# EAGLE library part HT46R62 (library HT46R62)
Holtek HT46R62 A/D with LCD Type 8 Bit MCU
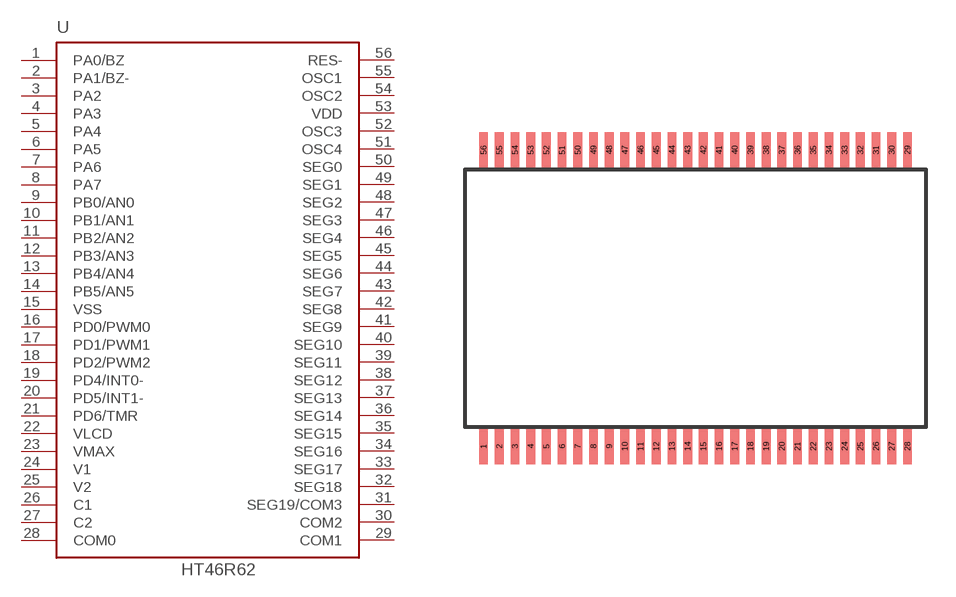
[diagram p0: symbol with the pads of SSOP56; footprint SSOP56]

Designator prefix -

## HT46R62  [SSOP56]
1  PA0/BZ
2  PA1/BZ-
3  PA2
4  PA3
5  PA4
6  PA5
7  PA6
8  PA7
9  PB0/AN0
10  PB1/AN1
11  PB2/AN2
12  PB3/AN3
13  PB4/AN4
14  PB5/AN5
15  VSS  pwr
16  PD0/PWM0
17  PD1/PWM1
18  PD2/PWM2
19  PD4/INT0-
20  PD5/INT1-
21  PD6/TMR
22  VLCD  pwr
23  VMAX  pwr
24  V1  pas
25  V2  pas
26  C1  pas
27  C2  pas
28  COM0
29  COM1
30  COM2
31  SEG19/COM3
32  SEG18
33  SEG17
34  SEG16
35  SEG15
36  SEG14
37  SEG13
38  SEG12
39  SEG11
40  SEG10
41  SEG9
42  SEG8
43  SEG7
44  SEG6
45  SEG5
46  SEG4
47  SEG3
48  SEG2
49  SEG1
50  SEG0
51  OSC4
52  OSC3
53  VDD  pwr
54  OSC2  pas
55  OSC1  pas
56  RES-  in

## Footprint SSOP56 (pad centres in mm)
SSOP 56 Shrink Small Outline Package
smd 0.45 x 1.8: 1 -10.8,-7.55; 2 -10,-7.55; 3 -9.2,-7.55; 4 -8.4,-7.55; 5 -7.6,-7.55; 6 -6.8,-7.55; 7 -6,-7.55; 8 -5.2,-7.55; 9 -4.4,-7.55; 10 -3.6,-7.55; 11 -2.8,-7.55; 12 -2,-7.55; 13 -1.2,-7.55; 14 -0.4,-7.55; 15 0.4,-7.55; 16 1.2,-7.55; 17 2,-7.55; 18 2.8,-7.55; 19 3.6,-7.55; 20 4.4,-7.55; 21 5.2,-7.55; 22 6,-7.55; 23 6.8,-7.55; 24 7.6,-7.55; 25 8.4,-7.55; 26 9.2,-7.55; 27 10,-7.55; 28 10.8,-7.55; 29 10.8,7.55; 30 10,7.55; 31 9.2,7.55; 32 8.4,7.55; 33 7.6,7.55; 34 6.8,7.55; 35 6,7.55; 36 5.2,7.55; 37 4.4,7.55; 38 3.6,7.55; 39 2.8,7.55; 40 2,7.55; 41 1.2,7.55; 42 0.4,7.55; 43 -0.4,7.55; 44 -1.2,7.55; 45 -2,7.55; 46 -2.8,7.55; 47 -3.6,7.55; 48 -4.4,7.55; 49 -5.2,7.55; 50 -6,7.55; 51 -6.8,7.55; 52 -7.6,7.55; 53 -8.4,7.55; 54 -9.2,7.55; 55 -10,7.55; 56 -10.8,7.55